# Altium footprint library CartSimple.PCBLIB: 166 footprints (part 7 of 11)
Each footprint in its own frame and in the unit in brackets; x right, y up, seen from the top. Pads: shape width x height; smd on the part's side, far side on the other; paste and mask are expansions set on the pad; w line width, h text height; cw(c..) or ccw(c..) is an arc to the next point about the centre after c.
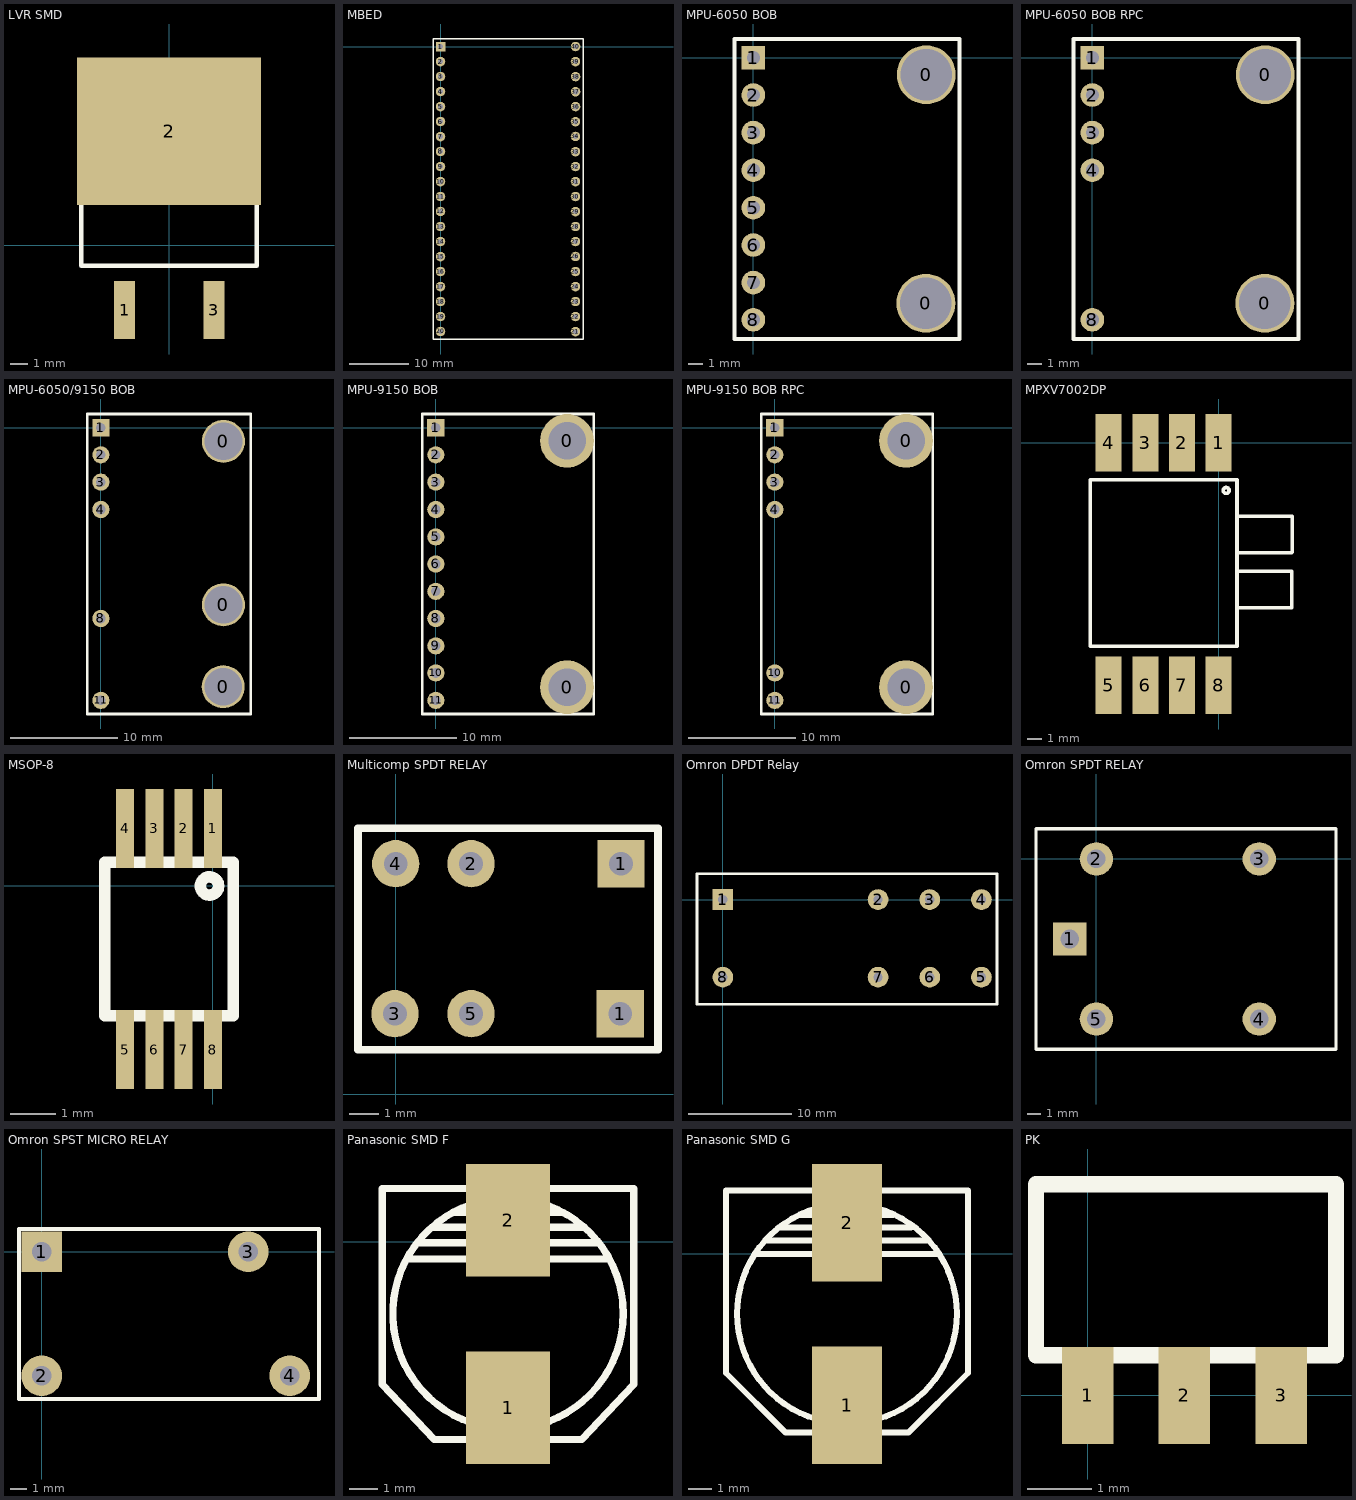
[diagram p6: the footprints below, top view; thin cyan lines are the x and y axes]

## LVR SMD [mm]
pads (3):
  rect 1.2x3.3 smd: 1(-2.525,-3.7) 3(2.555,-3.7)
  rect 10.5x8.4 smd: 2(0,6.5)
Top Overlay:
  lines w0.254: -5,8.475 5,8.475 ; -5,-1.175 5,-1.175 5,10 -5,10 -5,-1.175

## MBED [mm]
pads (40):
  rect 1.6x1.6 hole 0.9: 1(0,0)
  round 1.6 hole 0.9: 2(0,-2.55) 3(0,-5.075) 4(0,-7.625) 5(0,-10.175) 6(0,-12.7) 7(0,-15.25) 8(0,-17.775) 9(0,-20.325) 10(0,-22.875) 11(0,-25.4) 12(0,-27.925) 13(0,-30.475) 14(0,-33.025) 15(0,-35.575) 16(0,-38.1) 17(0,-40.65) 18(0,-43.175) 19(0,-45.725) 20(0,-48.25) 21(22.85,-48.275) 22(22.85,-45.725) 23(22.85,-43.175) 24(22.85,-40.65) 25(22.85,-38.1) 26(22.85,-35.55) 27(22.85,-33.025) 28(22.85,-30.475) 29(22.85,-27.95) 30(22.85,-25.4) 31(22.85,-22.875) 32(22.85,-20.325) 33(22.85,-17.8) 34(22.85,-15.225) 35(22.85,-12.725) 36(22.875,-10.175) 37(22.875,-7.65) 38(22.875,-5.1) 39(22.85,-2.55) 40(22.875,0)
Top Overlay:
  lines w0.254: -1.275,-49.525 24.125,-49.525 24.125,1.275 -1.275,1.275 -1.275,-49.525

## MPU-6050 BOB [mm]
pads (10):
  round 4 hole 3.5: 0(11.7,-16.65) 0(11.725,-1.15)
  rect 1.6x1.6 hole 0.9: 1(0,0)
  round 1.6 hole 0.9: 2(0,-2.525) 3(0,-5.075) 4(0,-7.625) 5(0,-10.175) 6(0,-12.7) 7(0,-15.25) 8(0,-17.775)
Top Overlay:
  lines w0.254: -1.275,-19.075 -1.275,1.275 13.975,1.275 13.975,-19.075 -1.275,-19.075

## MPU-6050 BOB RPC [mm]
pads (7):
  round 4 hole 3.5: 0(11.7,-16.65) 0(11.725,-1.15)
  rect 1.6x1.6 hole 0.9: 1(0,0)
  round 1.6 hole 0.9: 2(0,-2.525) 3(0,-5.075) 4(0,-7.625) 8(0,-17.775)
Top Overlay:
  lines w0.254: -1.275,-19.075 -1.275,1.275 13.975,1.275 13.975,-19.075 -1.275,-19.075

## MPU-6050/9150 BOB [mm]
pads (9):
  round 4 hole 3.5: 0(11.4,-24.125) 0(11.425,-16.5) 0(11.425,-1.275)
  rect 1.6x1.6 hole 0.9: 1(0,0)
  round 1.6 hole 0.9: 2(0,-2.525) 3(0,-5.075) 4(0,-7.625) 8(0,-17.775) 11(0,-25.4)
Top Overlay:
  lines w0.254: -1.275,-26.675 -1.275,1.275 13.975,1.275 13.975,-26.675 -1.275,-26.675

## MPU-9150 BOB [mm]
pads (13):
  round 5 hole 3.5: 0(12.225,-24.175) 0(12.225,-1.225)
  rect 1.6x1.6 hole 0.9: 1(0,0)
  round 1.6 hole 0.9: 2(0,-2.525) 3(0,-5.075) 4(0,-7.625) 5(0,-10.175) 6(0,-12.7) 7(0,-15.25) 8(0,-17.775) 9(0,-20.325) 10(0,-22.85) 11(0,-25.4)
Top Overlay:
  lines w0.254: -1.275,-26.675 14.725,-26.675 14.725,1.275 -1.275,1.275 -1.275,-26.675

## MPU-9150 BOB RPC [mm]
pads (8):
  round 5 hole 3.5: 0(12.225,-24.175) 0(12.225,-1.225)
  rect 1.6x1.6 hole 0.9: 1(0,0)
  round 1.6 hole 0.9: 2(0,-2.525) 3(0,-5.075) 4(0,-7.625) 10(0,-22.85) 11(0,-25.4)
Top Overlay:
  lines w0.254: -1.275,-26.675 14.725,-26.675 14.725,1.275 -1.275,1.275 -1.275,-26.675

## MPXV7002DP [mm]
pads (8):
  rect 1.8x4 smd: 1(0,0) 2(-2.55,0) 3(-5.075,0) 4(-7.625,0) 5(-7.625,-16.8) 6(-5.075,-16.8) 7(-2.55,-16.8) 8(0,-16.8)
Top Overlay:
  circle w0.254: c0.523,-3.3 r0.202
  lines w0.254: 1.275,-11.425 5.075,-11.425 5.075,-8.9 1.275,-8.9 ; 1.275,-7.575 1.325,-7.625 5.05,-7.625 5.1,-7.575 5.1,-5.1 1.275,-5.1 ; -8.9,-14.1 1.275,-14.1 1.275,-2.55 -8.9,-2.55 -8.9,-14.1

## MSOP-8 [mm]
pads (8):
  rect 0.4x1.75 smd: 1(0,1.275) 2(-0.65,1.275) 3(-1.3,1.275) 4(-1.95,1.275) 5(-1.95,-3.625) 6(-1.3,-3.625) 7(-0.65,-3.625) 8(0,-3.625)
Top Overlay:
  circle w0.254: c-0.077,0 r0.202
  lines w0.254: -2.4,-2.875 -2.4,0.525 0.45,0.525 0.45,-2.875 -2.4,-2.875

## Multicomp SPDT RELAY  [mm]
pads (6):
  rect 1.6x1.6 hole 0.8: 1(7.6,2.725) 1(7.625,7.8)
  round 1.6 hole 0.8: 2(2.55,7.8) 3(-0.025,2.725) 4(0,7.8) 5(2.55,2.725)
Top Overlay:
  lines w0.254: -1.275,1.5 -1.275,9 8.875,9 8.875,1.5 -1.275,1.5

## Omron DPDT Relay [mm]
pads (8):
  rect 2x2 hole 0.9: 1(0,0)
  round 2 hole 0.9: 2(15,0) 3(20,0) 4(25,0) 5(25,-7.5) 6(20,-7.5) 7(15,-7.5) 8(0,-7.5)
Top Overlay:
  lines w0.254: -2.5,-10.125 -2.5,2.5 26.5,2.5 26.5,-10.125 -2.5,-10.125

## Omron SPDT RELAY [mm]
pads (5):
  rect 2.5x2.5 hole 1.4: 1(-2,-6)
  round 2.5 hole 1.4: 2(0,0) 3(12.2,0) 4(12.2,-12) 5(0,-12)
Top Overlay:
  lines w0.254: -4.525,-14.254 -4.525,2.246 17.95,2.25 17.95,-14.25 -4.525,-14.254

## Omron SPST MICRO RELAY [mm]
pads (4):
  rect 2.5x2.5 hole 1.2: 1(0,0)
  round 2.5 hole 1.2: 2(0,-7.625) 3(12.7,0) 4(15.25,-7.625)
Top Overlay:
  lines w0.254: -1.4,-9.05 -1.4,1.4 17.05,1.4 17.05,-9.05 -1.4,-9.05

## Panasonic SMD F [mm]
pads (2):
  rect 3x4 smd: 1(-12.7,-5.9) 2(-12.7,0.775)
Top Overlay:
  circle w0.254: c-12.7,-2.55 r4.1
  lines w0.254: -16.3,-0.6 -9.125,-0.6 ; -15.925,-0.025 -9.475,-0.025 ; -15.4,0.525 -9.975,0.525 ; -14.65,1.05 -10.725,1.05 ; -17.175,-5.075 -15.325,-7.025 -10.075,-7.025 -8.225,-5.075 -8.225,1.9 -17.175,1.9 -17.175,-5.075

## Panasonic SMD G [mm] "Panasonic SMD Electrolytic Capacitor"
pads (2):
  rect 3x5 smd: 1(-12.7,-6.45) 2(-12.7,1.325)
Top Overlay:
  circle w0.254: c-12.7,-2.55 r4.677
  lines w0.254: -16.6,0 -8.8,0 ; -16.125,0.575 -9.325,0.575 ; -15.525,1.125 -9.975,1.125 ; -14.675,1.65 -10.75,1.65 ; -17.85,-5.075 -15.325,-7.6 -10.075,-7.6 -7.55,-5.075 -7.55,2.7 -17.85,2.7 -17.85,-5.075

## PK [mm]
pads (3):
  rect 0.8x1.5 smd: 1(0,0) 2(1.5,0) 3(3,0)
Top Overlay:
  lines w0.254: -0.8,0.625 -0.8,3.275 3.85,3.275 3.85,0.625 -0.8,0.625